# EAGLE library part LTC3537 (library eric-custom)
2.2 MHz, 600mA Synchronous Step-Up DC/DC Converter and 100mA LDO
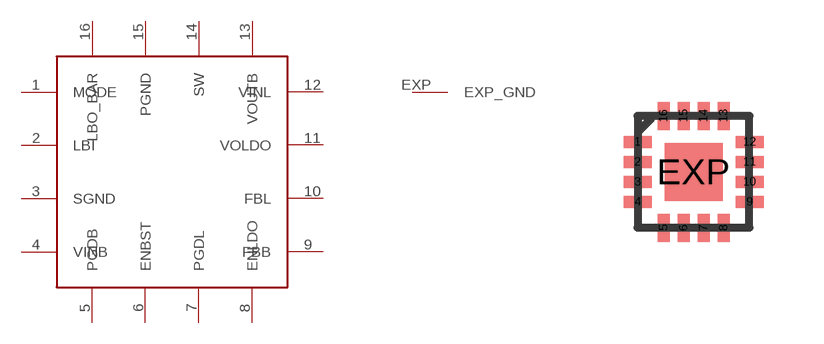
[diagram p19: symbol with the pads of QFN3X3-6; footprint QFN3X3-6]

Designator prefix -

## LTC3537  [QFN3X3-6]
1  MODE
2  LBI
3  SGND
4  VINB
5  PGDB
6  ENBST
7  PGDL
8  ENLDO
9  FBB
10  FBL
11  VOLDO
12  VINL
13  VOUTB
14  SW
15  PGND
16  LBO_BAR
EXP  EXP_GND

## Footprint QFN3X3-6 (pad centres in mm)
16-Lead Plastic QFN (3mm × 3mm) Auto generated by make-symbol-device-package-bsdl.ulp Rev. 44 Source: http://cds.linear.com/docs/en/datasheet/3645f.pdf
smd 0.7 x 0.3: 1 -1.4,0.75; 2 -1.4,0.25; 3 -1.4,-0.25; 4 -1.4,-0.75; 9 1.4,-0.75; 10 1.4,-0.25; 11 1.4,0.25; 12 1.4,0.75
smd 0.3 x 0.7: 5 -0.75,-1.4; 6 -0.25,-1.4; 7 0.25,-1.4; 8 0.75,-1.4; 13 0.75,1.4; 14 0.25,1.4; 15 -0.25,1.4; 16 -0.75,1.4
smd 1.45 x 1.45: EXP 0,0